# Altium schematic symbol library Connector Header 200.SchLib: 35 symbols
Pins are listed as number, name and electrical type; pins without a type are passive.

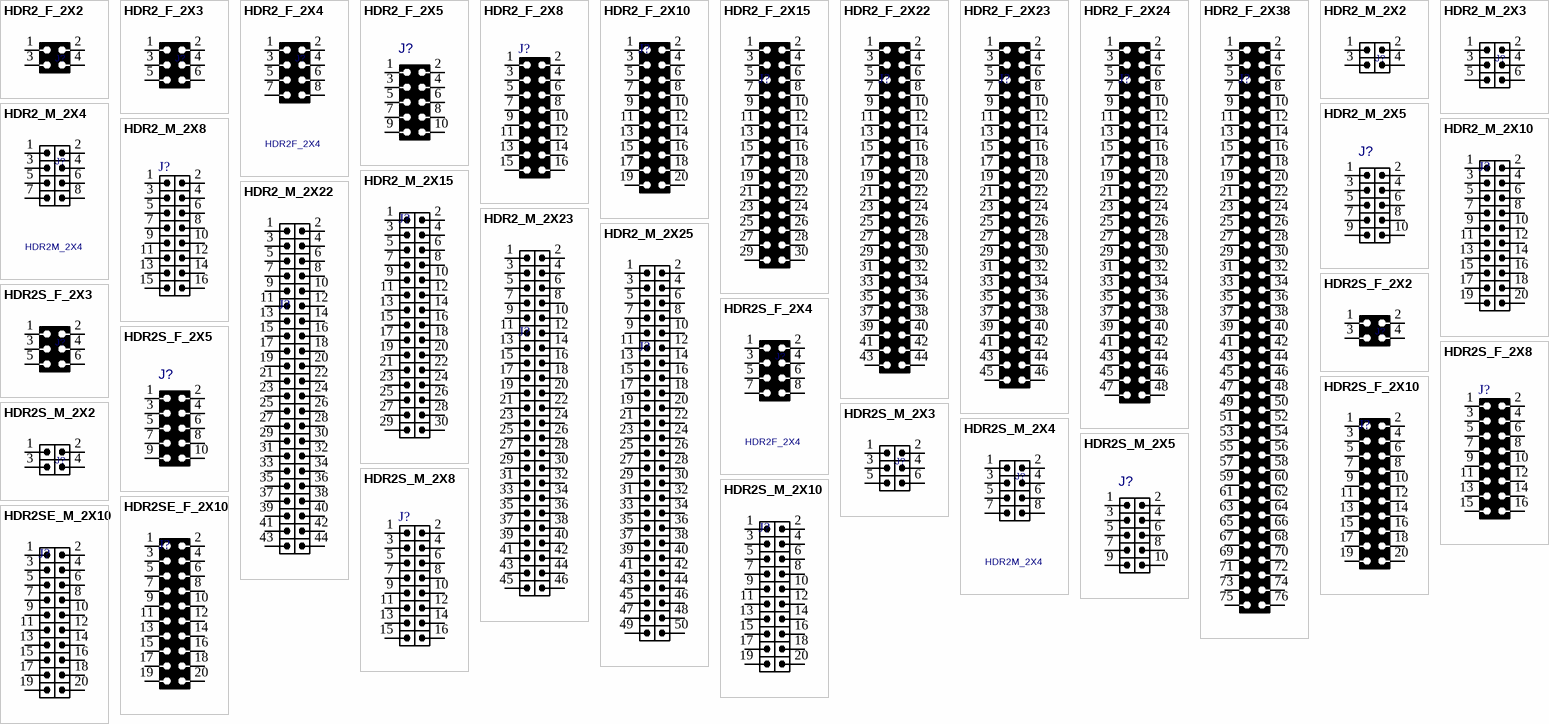
[diagram p0: symbols HDR2_F_2X2 to HDR2SE_M_2X10]

## HDR2_F_2X2
designator J?, comment HDR2F_2X2  (value not drawn)
CONN, HEADER, Female, pitch: 2mm, 4POS; MANF_P#: MANF_PART#; MANF: MANF; VALUE: HDR2F_2X2
footprint HDR2_F_2X2 (Connector; Header; 2mm Pitch)
pins: 1, 2, 3, 4

## HDR2_F_2X3
designator J?, comment HDR2F_2X3  (value not drawn)
CONN, HEADER, Female, pitch: 2mm, 6POS; MANF_P#: MANF_PART#; MANF: MANF; VALUE: HDR2F_2X3
footprint HDR2_F_2X3 (Connector; Header; 2mm Pitch)
pins: 1, 2, 3, 4, 5, 6

## HDR2_F_2X4
designator J?, comment HDR2F_2X4
CONN, HEADER, Female, pitch: 2mm, 8POS; MANF_P#: MANF_PART#; MANF: MANF; VALUE: HDR2F_2X4
footprint HDR2_F_2X4 (Connector; Header; 2mm Pitch)
pins: 1, 2, 3, 4, 5, 6, 7, 8

## HDR2_F_2X5
designator J?, comment HDR2F_2X5  (value not drawn)
CONN, HEADER, Female, pitch: 2mm, 10POS; VALUE: HDR2F_2X5
footprint HDR2_F_2X5 (Connector; Header; 2mm Pitch)
pins: 1, 2, 3, 4, 5, 6, 7, 8, 9, 10

## HDR2_F_2X8
designator J?, comment HDR2F_2X8  (value not drawn)
CONN, HEADER, Female, pitch: 2mm, 16POS; VALUE: HDR2F_2X8
footprint HDR2_F_2X8 (Connector; Header; 2mm Pitch)
pins: 1, 2, 3, 4, 5, 6, 7, 8, 9, 10, 11, 12, 13, 14, 15, 16

## HDR2_F_2X10
designator J?, comment HDR2F_2X10  (value not drawn)
CONN, HEADER, Female, pitch: 2mm, 20POS; VALUE: HDR2F_2X10
footprint HDR2_F_2X10 (Connector; Header; 2mm Pitch)
pins: 1, 2, 3, 4, 5, 6, 7, 8, 9, 10, 11, 12, 13, 14, 15, 16, 17, 18, 19, 20

## HDR2_F_2X15
designator J?, comment HDR2F_2X15  (value not drawn)
CONN, HEADER, Female, pitch: 2mm, 30POS; VALUE: HDR2F_2X15
footprint HDR2_F_2X15 (Footprint not found)
pins: 1, 2, 3, 4, 5, 6, 7, 8, 9, 10, 11, 12, 13, 14, 15, 16, 17, 18, 19, 20, 21, 22, 23, 24, 25, 26, 27, 28, 29, 30

## HDR2_F_2X22
designator J?, comment HDR2F_2X22  (value not drawn)
CONN, HEADER, Female, pitch: 2mm, 44POS; VALUE: HDR2F_2X22
footprint HDR2_F_2X22 (Connector; Header; 2mm Pitch)
pins: 1, 2, 3, 4, 5, 6, 7, 8, 9, 10, 11, 12, 13, 14, 15, 16, 17, 18, 19, 20, 21, 22, 23, 24, 25, 26, 27, 28, 29, 30, 31, 32, 33, 34, 35, 36, 37, 38, 39, 40, 41, 42, 43, 44

## HDR2_F_2X23
designator J?, comment HDR2F_2X23  (value not drawn)
CONN, HEADER, Female, pitch: 2mm, 46POS; VALUE: HDR2F_2X23
footprint HDR2_F_2X23 (Connector; Header; 2mm Pitch)
pins: 1, 2, 3, 4, 5, 6, 7, 8, 9, 10, 11, 12, 13, 14, 15, 16, 17, 18, 19, 20, 21, 22, 23, 24, 25, 26, 27, 28, 29, 30, 31, 32, 33, 34, 35, 36, 37, 38, 39, 40, 41, 42, 43, 44, 45, 46

## HDR2_F_2X24
designator J?, comment HDR2F_2X24  (value not drawn)
CONN, HEADER, Female, pitch: 2mm, 48POS; VALUE: HDR2F_2X24
footprint HDR2_F_2X24 (Connector; Header; 2mm Pitch)
pins: 1, 2, 3, 4, 5, 6, 7, 8, 9, 10, 11, 12, 13, 14, 15, 16, 17, 18, 19, 20, 21, 22, 23, 24, 25, 26, 27, 28, 29, 30, 31, 32, 33, 34, 35, 36, 37, 38, 39, 40, 41, 42, 43, 44, 45, 46, 47, 48

## HDR2_F_2X38
designator J?, comment HDR2F_2X38  (value not drawn)
CONN, HEADER, Female, pitch: 2mm, 76POS; VALUE: HDR2F_2X38
footprint HDR2_F_2X38 (Connector; Header; 2mm Pitch)
pins: 1, 2, 3, 4, 5, 6, 7, 8, 9, 10, 11, 12, 13, 14, 15, 16, 17, 18, 19, 20, 21, 22, 23, 24, 25, 26, 27, 28, 29, 30, 31, 32, 33, 34, 35, 36, 37, 38, 39, 40, 41, 42, 43, 44, 45, 46, 47, 48, 49, 50, 51, 52, 53, 54, 55, 56, 57, 58, 59, 60, 61, 62, 63, 64, 65, 66, 67, 68, 69, 70, 71, 72, 73, 74, 75, 76

## HDR2_M_2X2
designator J?, comment HDR2M_2X2  (value not drawn)
CONN, HEADER, Male, pitch: 2mm, 4POS; MANF_P#: MANF_PART#; MANF: MANF; VALUE: HDR2M_2X2
footprint HDR2_M_2X2 (Connector; Header; 2mm Pitch)
pins: 1, 2, 3, 4

## HDR2_M_2X3
designator J?, comment HDR2M_2X3  (value not drawn)
CONN, HEADER, Male, pitch: 2mm, 6POS; MANF_P#: MANF_PART#; MANF: MANF; VALUE: HDR2M_2X3
footprint HDR2_M_2X3 (Connector; Header; 2mm Pitch)
pins: 1, 2, 3, 4, 5, 6

## HDR2_M_2X4
designator J?, comment HDR2M_2X4
CONN, HEADER, Male, pitch: 2mm, 8POS; MANF_P#: MANF_PART#; MANF: MANF; VALUE: HDR2M_2X4
footprint HDR2_M_2X4 (Connector; Header; 2mm Pitch)
pins: 1, 2, 3, 4, 5, 6, 7, 8

## HDR2_M_2X5
designator J?, comment HDR2M_2X5  (value not drawn)
CONN, HEADER, Male, pitch: 2mm, 10POS; VALUE: HDR2M_2X5
footprint HDR2_M_2X5 (Connector; Header; 2mm Pitch)
pins: 1, 2, 3, 4, 5, 6, 7, 8, 9, 10

## HDR2_M_2X8
designator J?, comment HDR2M_2X8  (value not drawn)
CONN, HEADER, Male, pitch: 2mm, 16POS; VALUE: HDR2M_2X8
footprint HDR2_M_2X8 (Connector; Header; 2mm Pitch)
pins: 1, 2, 3, 4, 5, 6, 7, 8, 9, 10, 11, 12, 13, 14, 15, 16

## HDR2_M_2X10
designator J?, comment HDR2M_2X10  (value not drawn)
CONN, HEADER, Male, pitch: 2mm, 20POS; VALUE: HDR2M_2X10
footprint HDR2_M_2X10 (Connector; Header; 2mm Pitch)
pins: 1, 2, 3, 4, 5, 6, 7, 8, 9, 10, 11, 12, 13, 14, 15, 16, 17, 18, 19, 20

## HDR2_M_2X15
designator J?, comment HDR2M_2X15  (value not drawn)
CONN, HEADER, Male, pitch: 2mm, 30POS; VALUE: HDR2M_2X15
footprint HDR2_M_2X10 (Connector; Header; 2mm Pitch)
pins: 1, 2, 3, 4, 5, 6, 7, 8, 9, 10, 11, 12, 13, 14, 15, 16, 17, 18, 19, 20, 21, 22, 23, 24, 25, 26, 27, 28, 29, 30

## HDR2_M_2X22
designator J?  (value not drawn)
CONN, HEADER, Male, pitch: 2mm, 44POS; VALUE: HDR2_M_2X22
footprint HDR2_M_2X22 (Connector; Header; 22x2 Position; 2mm Pitch)
pins: 1, 2, 3, 4, 5, 6, 7, 8, 9, 10, 11, 12, 13, 14, 15, 16, 17, 18, 19, 20, 21, 22, 23, 24, 25, 26, 27, 28, 29, 30, 31, 32, 33, 34, 35, 36, 37, 38, 39, 40, 41, 42, 43, 44

## HDR2_M_2X23
designator J?  (value not drawn)
CONN, HEADER, Male, pitch: 2mm, 46POS; VALUE: HDR2_M_2X23
footprint HDR2_M_2X23 (Connector; Header; 23x2 Position; 2mm Pitch)
pins: 1, 2, 3, 4, 5, 6, 7, 8, 9, 10, 11, 12, 13, 14, 15, 16, 17, 18, 19, 20, 21, 22, 23, 24, 25, 26, 27, 28, 29, 30, 31, 32, 33, 34, 35, 36, 37, 38, 39, 40, 41, 42, 43, 44, 45, 46

## HDR2_M_2X25
designator J?  (value not drawn)
CONN, HEADER, Male, pitch: 2mm, 50POS; VALUE: HDR2_M_2X25
footprint HDR2_M_2X25 (Connector; Header; 25x2 Position; 2mm Pitch)
pins: 1, 2, 3, 4, 5, 6, 7, 8, 9, 10, 11, 12, 13, 14, 15, 16, 17, 18, 19, 20, 21, 22, 23, 24, 25, 26, 27, 28, 29, 30, 31, 32, 33, 34, 35, 36, 37, 38, 39, 40, 41, 42, 43, 44, 45, 46, 47, 48, 49, 50

## HDR2S_F_2X2
designator J?, comment HDR2F_2X2  (value not drawn)
CONN, HEADER, Female, pitch: 2mm, 4POS, SMD; MANF_P#: MANF_PART#; MANF: MANF; VALUE: HDR2F_2X2
footprint HDR2S_F_2X2 (Header 2.0mm pitch)
pins: 1, 2, 3, 4

## HDR2S_F_2X3
designator J?, comment HDR2F_2X3  (value not drawn)
CONN, HEADER, Female, pitch: 2mm, 6POS, SMD; MANF_P#: MANF_PART#; MANF: MANF; VALUE: HDR2F_2X3
footprint HDR2S_F_2X3 (Header 2.0mm pitch)
pins: 1, 2, 3, 4, 5, 6

## HDR2S_F_2X4
designator J?, comment HDR2F_2X4
CONN, HEADER, Female, pitch: 2mm, 8POS, SMD; MANF_P#: MANF_PART#; MANF: MANF; VALUE: HDR2F_2X4
footprint HDR2S_F_2X4 (Header 2.0mm pitch)
pins: 1, 2, 3, 4, 5, 6, 7, 8

## HDR2S_F_2X5
designator J?, comment HDR2F_2X5  (value not drawn)
CONN, HEADER, Female, pitch: 2mm, 10POS, SMD; VALUE: HDR2F_2X5
footprint HDR2S_F_2X5 (Header 2.0mm pitch)
pins: 1, 2, 3, 4, 5, 6, 7, 8, 9, 10

## HDR2S_F_2X8
designator J?, comment HDR2F_2X8  (value not drawn)
CONN, HEADER, Female, pitch: 2mm, 16POS, SMD; VALUE: HDR2F_2X8
footprint HDR2S_F_2X8 (Header 2.0mm pitch)
pins: 1, 2, 3, 4, 5, 6, 7, 8, 9, 10, 11, 12, 13, 14, 15, 16

## HDR2S_F_2X10
designator J?, comment HDR2F_2X10  (value not drawn)
CONN, HEADER, Female, pitch: 2mm, 20POS, SMD; VALUE: HDR2F_2X10
footprint HDR2S_F_2X10 (Header 2.0mm pitch)
pins: 1, 2, 3, 4, 5, 6, 7, 8, 9, 10, 11, 12, 13, 14, 15, 16, 17, 18, 19, 20

## HDR2S_M_2X2
designator J?, comment HDR2M_2X2  (value not drawn)
CONN, HEADER, Male, pitch: 2mm, 4POS, SMD; MANF_P#: MANF_PART#; MANF: MANF; VALUE: HDR2M_2X2
footprint HDR2S_M_2X2 (Header 2.0mm pitch)
pins: 1, 2, 3, 4

## HDR2S_M_2X3
designator J?, comment HDR2M_2X3  (value not drawn)
CONN, HEADER, Male, pitch: 2mm, 6POS, SMD; MANF_P#: MANF_PART#; MANF: MANF; VALUE: HDR2M_2X3
footprint HDR2S_M_2X3 (Header 2.0mm pitch)
pins: 1, 2, 3, 4, 5, 6

## HDR2S_M_2X4
designator J?, comment HDR2M_2X4
CONN, HEADER, Male, pitch: 2mm, 8POS, SMD; MANF_P#: MANF_PART#; MANF: MANF; VALUE: HDR2M_2X4
footprint HDR2S_M_2X4 (Header 2.0mm pitch)
pins: 1, 2, 3, 4, 5, 6, 7, 8

## HDR2S_M_2X5
designator J?, comment HDR2M_2X5  (value not drawn)
CONN, HEADER, Male, pitch: 2mm, 10POS, SMD; VALUE: HDR2M_2X5
footprint HDR2S_M_2X5 (Header 2.0mm pitch)
pins: 1, 2, 3, 4, 5, 6, 7, 8, 9, 10

## HDR2S_M_2X8
designator J?, comment HDR2M_2X8  (value not drawn)
CONN, HEADER, Male, pitch: 2mm, 16POS, SMD; VALUE: HDR2M_2X8
footprint HDR2S_M_2X8 (Header 2.0mm pitch)
pins: 1, 2, 3, 4, 5, 6, 7, 8, 9, 10, 11, 12, 13, 14, 15, 16

## HDR2S_M_2X10
designator J?, comment HDR2M_2X10  (value not drawn)
CONN, HEADER, Male, pitch: 2mm, 20POS, SMD; VALUE: HDR2M_2X10
footprint HDR2S_M_2X10 (Header 2.0mm pitch)
pins: 1, 2, 3, 4, 5, 6, 7, 8, 9, 10, 11, 12, 13, 14, 15, 16, 17, 18, 19, 20

## HDR2SE_F_2X10
designator J?, comment HDR2F_2X10  (value not drawn)
CONN, HEADER, Female, pitch: 2mm, 20POS, SMD edge of board; VALUE: HDR2F_2X10
footprint HDR2SE_F_2X10
pins: 1, 2, 3, 4, 5, 6, 7, 8, 9, 10, 11, 12, 13, 14, 15, 16, 17, 18, 19, 20

## HDR2SE_M_2X10
designator J?, comment HDR2M_2X10  (value not drawn)
CONN, HEADER, Male, pitch: 2mm, 20POS, SMD edge of board; VALUE: HDR2M_2X10
footprint HDR2SE_M_2X10
pins: 1, 2, 3, 4, 5, 6, 7, 8, 9, 10, 11, 12, 13, 14, 15, 16, 17, 18, 19, 20